# Altium schematic symbol library SCH - SENSOR - CURRENT - TI INA236 DDF-8.SCHLIB: 1 symbol
Pins are listed as number, name and electrical type; pins without a type are passive.

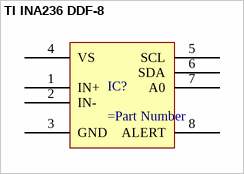
[diagram p0: symbol TI INA236 DDF-8]

## TI INA236 DDF-8
designator IC?
pins: 1 IN+, 2 IN-, 3 GND, 4 VS, 5 SCL, 6 SDA, 7 A0, 8 ALERT